# Altium footprint library TQFP32.PcbLib: 1 footprints
Each footprint in its own frame and in the unit in brackets; x right, y up, seen from the top. Pads: shape width x height; smd on the part's side, far side on the other; paste and mask are expansions set on the pad; w line width, h text height; cw(c..) or ccw(c..) is an arc to the next point about the centre after c.
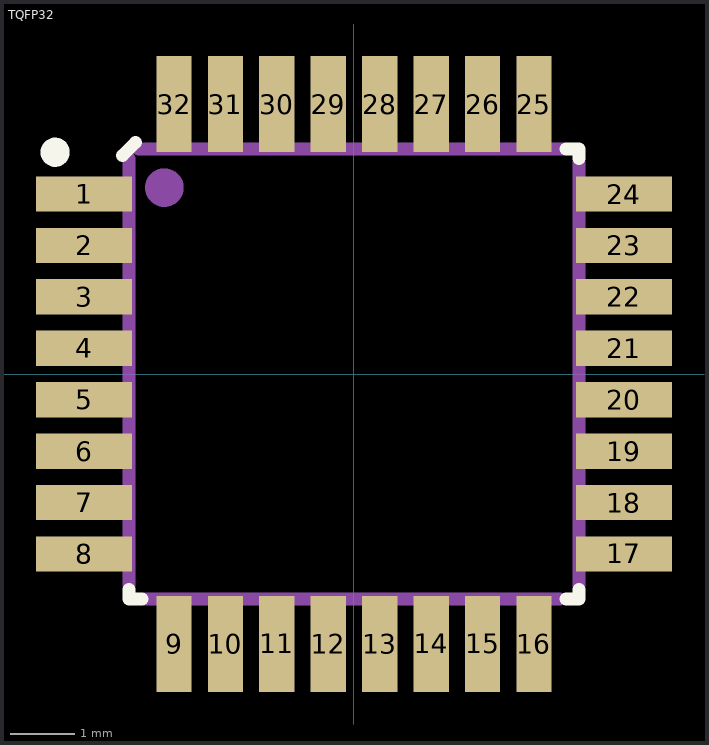
[diagram p0: the footprint, top view; thin cyan lines are the x and y axes]

## TQFP32 [mm]
pads (32):
  rect 1.5x0.55 smd paste+0 mask+0.06: 1(-4.2,2.8) 2(-4.2,2) 3(-4.2,1.2) 4(-4.2,0.4) 5(-4.2,-0.4) 6(-4.2,-1.2) 7(-4.2,-2) 8(-4.2,-2.8) 17(4.2,-2.8) 18(4.2,-2) 19(4.2,-1.2) 20(4.2,-0.4) 21(4.2,0.4) 22(4.2,1.2) 23(4.2,2) 24(4.2,2.8)
  rect 0.55x1.5 smd paste+0 mask+0.06: 9(-2.8,-4.2) 10(-2,-4.2) 11(-1.2,-4.2) 12(-0.4,-4.2) 13(0.4,-4.2) 14(1.2,-4.2) 15(2,-4.2) 16(2.8,-4.2) 25(2.8,4.2) 26(2,4.2) 27(1.2,4.2) 28(0.4,4.2) 29(-0.4,4.2) 30(-1.2,4.2) 31(-2,4.2) 32(-2.8,4.2)
Top Overlay:
  circle w0.254: c-4.65,3.45 r0.1
  lines w0.2: -3.6,3.4 -3.4,3.6 ; -3.3,-3.5 -3.5,-3.5 ; 3.3,-3.5 3.5,-3.5 ; 3.3,3.5 3.5,3.5 ; -3.5,-3.5 -3.5,-3.35 -3.5,-3.5 ; 3.5,-3.5 3.5,-3.35 3.5,-3.5 ; 3.5,3.5 3.5,3.35 3.5,3.5
Mechanical 2:
  circle w0.4: c-2.95,2.9 r0.1
  lines w0.2: -3.5,-3.3 -3.5,3.35 ; -3.35,3.5 3.25,3.5 ; -3.25,-3.5 3.2,-3.5 ; 3.5,-3.3 3.5,3.3
  text ".Designator" at -1.75,0 h1.8
3D body "User Library-tqfp32.step": height 1.2, standoff 0, extent -4.599,-4.599 4.6,4.599